# EAGLE library part TRAM2SUB (library Transputers)
TRAM size-2 board with subsystem INMOS Standard Transputer Boards Source: The Transputer development and iq systems Databook 1991. Arto Kyyhkynen, artoky@dlc.fi
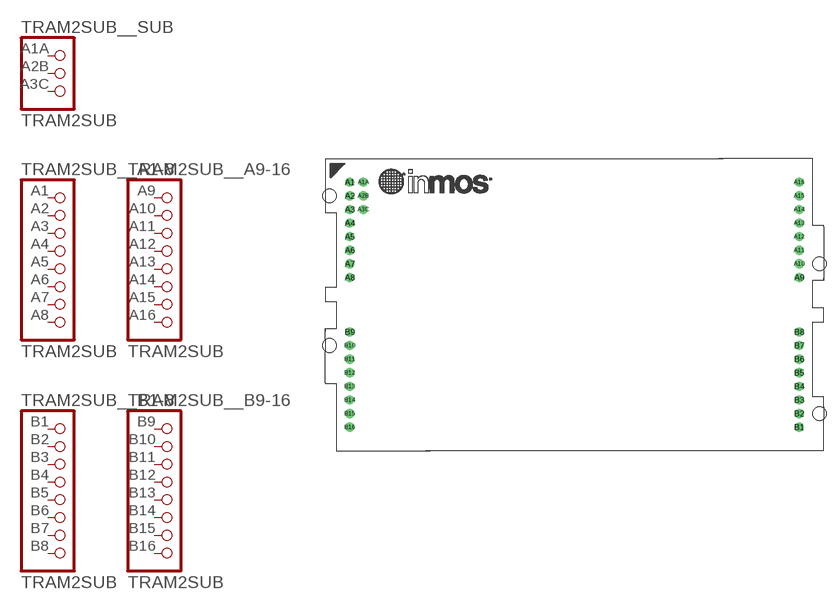
[diagram p17: symbol with the pads of TRAM_SUB_SIZE2; footprint TRAM_SUB_SIZE2]

Designator prefix TRAM2SUB_; gates _SUB=TRAMSUB _A1-8=TRAM1PINS _A9-16=TRAM1PINS _B1-8=TRAM1PINS _B9-16=TRAM1PINS

## TRAM2SUB  [TRAM_SUB_SIZE2]
A1  _A1-8:1  pas
A1A  _SUB:1  pas
A2  _A1-8:2  pas
A2B  _SUB:2  pas
A3  _A1-8:3  pas
A3C  _SUB:3  pas
A4  _A1-8:4  pas
A5  _A1-8:5  pas
A6  _A1-8:6  pas
A7  _A1-8:7  pas
A8  _A1-8:8  pas
A9  _A9-16:1  pas
A10  _A9-16:2  pas
A11  _A9-16:3  pas
A12  _A9-16:4  pas
A13  _A9-16:5  pas
A14  _A9-16:6  pas
A15  _A9-16:7  pas
A16  _A9-16:8  pas
B1  _B1-8:1  pas
B2  _B1-8:2  pas
B3  _B1-8:3  pas
B4  _B1-8:4  pas
B5  _B1-8:5  pas
B6  _B1-8:6  pas
B7  _B1-8:7  pas
B8  _B1-8:8  pas
B9  _B9-16:1  pas
B10  _B9-16:2  pas
B11  _B9-16:3  pas
B12  _B9-16:4  pas
B13  _B9-16:5  pas
B14  _B9-16:6  pas
B15  _B9-16:7  pas
B16  _B9-16:8  pas

## Footprint TRAM_SUB_SIZE2 (pad centres in mm)
TRAM size-2 with subsystem
drill 1.143 pad 1.676 round: A1 0,0; A1A 2.54,0; A2 0,-2.54; A2B 2.54,-2.54; A3 0,-5.08; A3C 2.54,-5.08; A4 0,-7.62; A5 0,-10.16; A6 0,-12.7; A7 0,-15.24; A8 0,-17.78; A9 83.82,-17.78; A10 83.82,-15.24; A11 83.82,-12.7; A12 83.82,-10.16; A13 83.82,-7.62; A14 83.82,-5.08; A15 83.82,-2.54; A16 83.82,0; B1 83.82,-45.72; B2 83.82,-43.18; B3 83.82,-40.64; B4 83.82,-38.1; B5 83.82,-35.56; B6 83.82,-33.02; B7 83.82,-30.48; B8 83.82,-27.94; B9 0,-27.94; B10 0,-30.48; B11 0,-33.02; B12 0,-35.56; B13 0,-38.1; B14 0,-40.64; B15 0,-43.18; B16 0,-45.72
hole 2.54 at -3.81,-2.54
hole 2.54 at -3.81,-30.48
hole 2.54 at 87.63,-15.24
hole 2.54 at 87.63,-43.18